# EAGLE library part MIC26901 (library display-r2)
Micrel 28V, 9A Hper Speed Control Synchronous DC/DC Buck Regulator http://www.micrel.com/_PDF/MIC26901.pdf
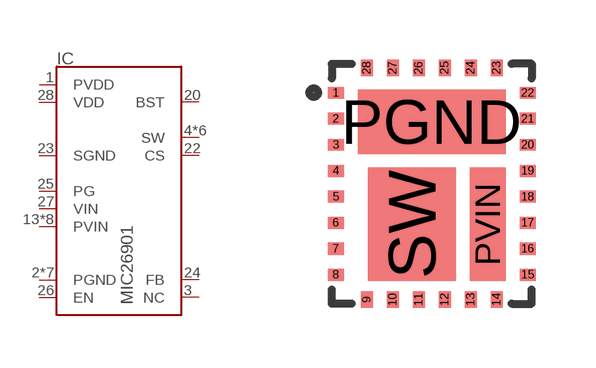
[diagram p8: symbol with the pads of MLF28_5X6; footprint MLF28_5X6]

Designator prefix IC

## MIC26901  [MLF28_5X6]
1  PVDD  pwr
2  PGND  pwr
3  NC  in
4  SW  out
5  PGND  pwr
6  PGND  pwr
7  PGND  pwr
8  PGND  pwr
9  SW  out
10  SW  out
11  SW  out
12  SW  out
13  PVIN  pwr
14  PVIN  pwr
15  PVIN  pwr
16  PVIN  pwr
17  PVIN  pwr
18  PVIN  pwr
19  PVIN  pwr
20  BST  in
21  PGND  pwr
22  CS  in
23  SGND  pwr
24  FB  in
25  PG  oc
26  EN  in
27  VIN  pwr
28  VDD  pwr
PGND  PGND  pwr
PVIN  PVIN  pwr
SW  SW  out

## Footprint MLF28_5X6 (pad centres in mm)
smd 0.4 x 0.3: 1 -2.4,2.275; 2 -2.4,1.625; 3 -2.4,0.975; 4 -2.4,0.325; 5 -2.4,-0.325; 6 -2.4,-0.975; 7 -2.4,-1.625; 8 -2.4,-2.275; 15 2.4,-2.275; 16 2.4,-1.625; 17 2.4,-0.975; 18 2.4,-0.325; 19 2.4,0.325; 20 2.4,0.975; 21 2.4,1.625; 22 2.4,2.275
smd 0.3 x 0.4: 9 -1.625,-2.9; 10 -0.975,-2.9; 11 -0.325,-2.9; 12 0.325,-2.9; 13 0.975,-2.9; 14 1.625,-2.9; 23 1.625,2.9; 24 0.975,2.9; 25 0.325,2.9; 26 -0.325,2.9; 27 -0.975,2.9; 28 -1.625,2.9
smd 3.7 x 1.6: PGND 0,1.55
smd 0.9 x 2.83: PVIN 1.4,-1.015
smd 2.2 x 2.83: SW -0.5,-1.015